# Altium footprint library SOD.PcbLib: 3 footprints
Each footprint in its own frame and in the unit in brackets; x right, y up, seen from the top. Pads: shape width x height; smd on the part's side, far side on the other; paste and mask are expansions set on the pad; w line width, h text height; cw(c..) or ccw(c..) is an arc to the next point about the centre after c.
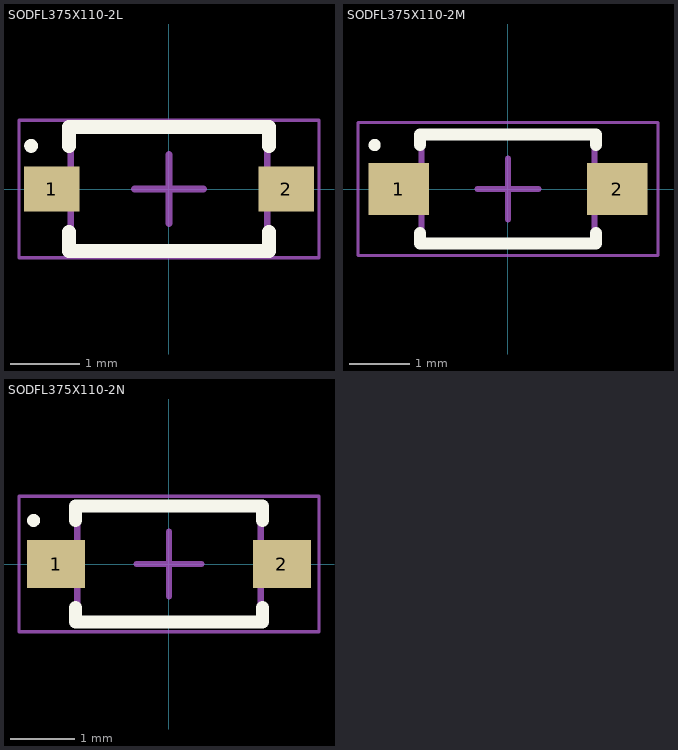
[diagram p0: the footprints below, top view; thin cyan lines are the x and y axes]

## SODFL375X110-2L [mm] "SODFL, 2-Leads, Body 1.60x3.75mm, IPC High Density"
height 1.1
pads (2):
  rect 0.8x0.65 smd: 1(-1.7,0) 2(1.7,0)
Top Overlay:
  circle w0.1: c-2,0.625 r0.05
  lines w0.2: -1.45,-0.625 -1.45,-0.9 1.45,-0.9 1.45,-0.625 ; -1.45,0.625 -1.45,0.9 1.45,0.9 1.45,0.625
Mechanical 13:
  lines w0.1: -1.425,-0.9 1.425,-0.9 1.425,0.9 -1.425,0.9 -1.425,-0.9
Mechanical 15:
  lines w0.05: -2.175,-1 2.175,-1 2.175,1 -2.175,1 -2.175,-1
  lines w0.1: -0.5,0 0.5,0 ; 0,-0.5 0,0.5
3D body "SODFL375X110-2L.step": height 1.1, standoff 0, extent -1.875,-0.9 1.875,0.9

## SODFL375X110-2M [mm] "SODFL, 2-Leads, Body 1.60x3.75mm, IPC Low Density"
height 1.1
pads (2):
  rect 1x0.85 smd: 1(-1.8,0) 2(1.8,0)
Top Overlay:
  circle w0.1: c-2.2,0.725 r0.05
  lines w0.2: -1.45,-0.725 -1.45,-0.9 1.45,-0.9 1.45,-0.725 ; -1.45,0.725 -1.45,0.9 1.45,0.9 1.45,0.725
Mechanical 13:
  lines w0.1: -1.425,-0.9 1.425,-0.9 1.425,0.9 -1.425,0.9 -1.425,-0.9
Mechanical 15:
  lines w0.05: -2.475,-1.1 2.475,-1.1 2.475,1.1 -2.475,1.1 -2.475,-1.1
  lines w0.1: -0.5,0 0.5,0 ; 0,-0.5 0,0.5
3D body "SODFL375X110-2M.step": height 1.1, standoff 0, extent -1.875,-0.9 1.875,0.9

## SODFL375X110-2N [mm] "SODFL, 2-Leads, Body 1.60x3.75mm, IPC Medium Density"
height 1.1
pads (2):
  rect 0.9x0.75 smd: 1(-1.75,0) 2(1.75,0)
Top Overlay:
  circle w0.1: c-2.1,0.675 r0.05
  lines w0.2: -1.45,-0.675 -1.45,-0.9 1.45,-0.9 1.45,-0.675 ; -1.45,0.675 -1.45,0.9 1.45,0.9 1.45,0.675
Mechanical 13:
  lines w0.1: -1.425,-0.9 1.425,-0.9 1.425,0.9 -1.425,0.9 -1.425,-0.9
Mechanical 15:
  lines w0.05: -2.325,-1.05 2.325,-1.05 2.325,1.05 -2.325,1.05 -2.325,-1.05
  lines w0.1: -0.5,0 0.5,0 ; 0,-0.5 0,0.5
3D body "SODFL375X110-2N.step": height 1.1, standoff 0, extent -1.875,-0.9 1.875,0.9